# Altium footprint library POWER.PcbLib: 39 footprints (part 3 of 3)
Each footprint in its own frame and in the unit in brackets; x right, y up, seen from the top. Pads: shape width x height; smd on the part's side, far side on the other; paste and mask are expansions set on the pad; w line width, h text height; cw(c..) or ccw(c..) is an arc to the next point about the centre after c.
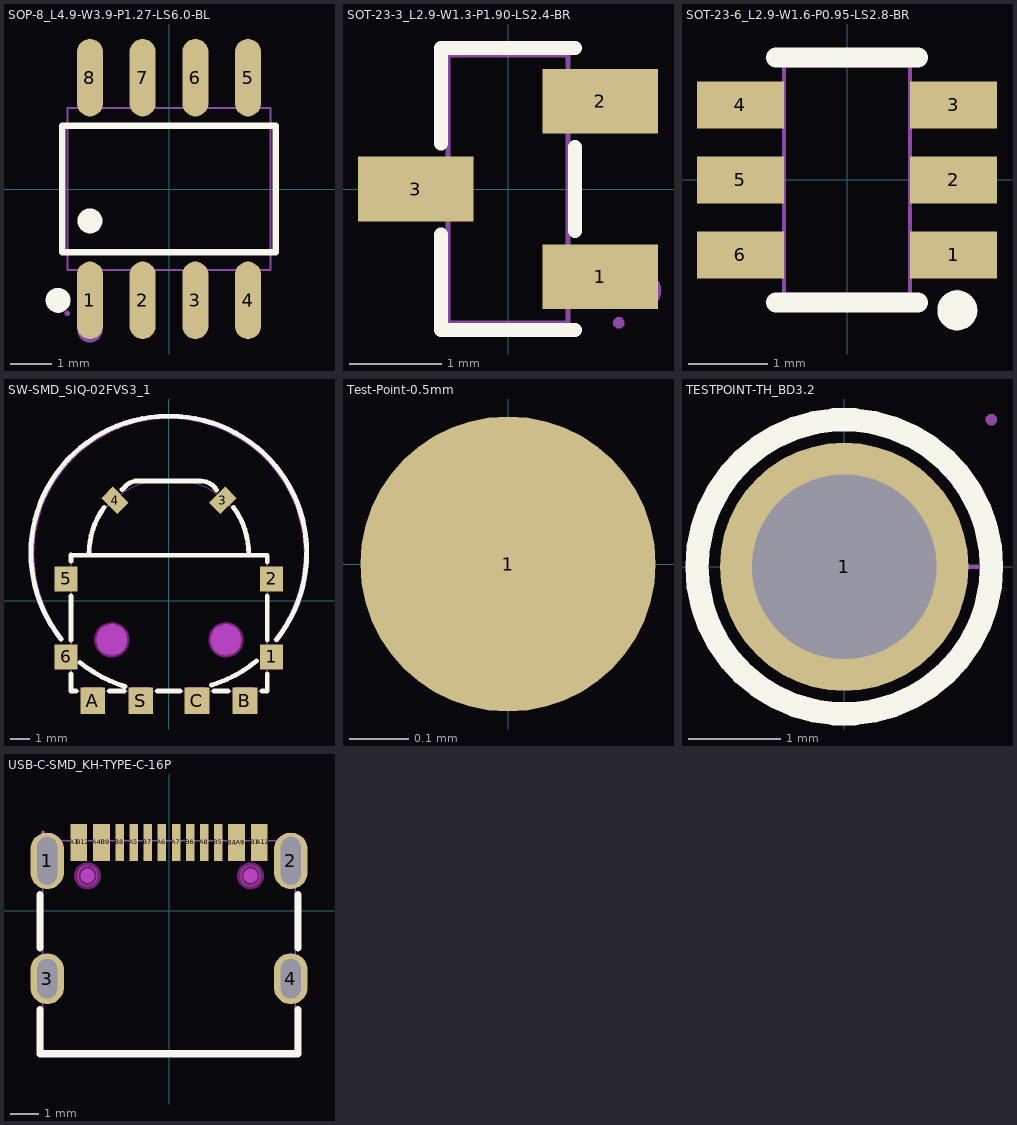
[diagram p2: the footprints below, top view; thin cyan lines are the x and y axes]

## SOP-8_L4.9-W3.9-P1.27-LS6.0-BL [mm]
pads (8):
  oval 0.63x1.865 smd: 1(-1.905,-2.682) 2(-0.635,-2.682) 3(0.635,-2.682) 4(1.905,-2.682) 5(1.905,2.682) 6(0.635,2.682) 7(-0.635,2.682) 8(-1.905,2.682)
Top Overlay:
  circle w0.3: c-2.672,-2.682 r0.15
  circle w0.3: c-1.905,-0.769 r0.15
  lines w0.152: -2.576,-1.521 2.576,-1.521 2.576,1.521 -2.576,1.521 -2.576,-1.521
Mechanical 6:
  circle w0.3: c-1.905,-3.4 r0.15
Mechanical 15:
  region: -2.115,-3 -2.115,-2.165 -1.695,-2.165 -1.695,-3
  region: -2.115,-2.175 -2.115,-1.94 -1.695,-1.94 -1.695,-2.175
  region: -0.845,-3 -0.845,-2.165 -0.425,-2.165 -0.425,-3
  region: -0.845,-2.175 -0.845,-1.94 -0.425,-1.94 -0.425,-2.175
  region: 0.425,-3 0.425,-2.165 0.845,-2.165 0.845,-3
  region: 0.425,-2.175 0.425,-1.94 0.845,-1.94 0.845,-2.175
  region: 1.695,-3 1.695,-2.165 2.115,-2.165 2.115,-3
  region: 1.695,-2.175 1.695,-1.94 2.115,-1.94 2.115,-2.175
  region: -2.115,2.165 -2.115,3 -1.695,3 -1.695,2.165
  region: -2.115,1.94 -2.115,2.175 -1.695,2.175 -1.695,1.94
  region: -0.845,2.165 -0.845,3 -0.425,3 -0.425,2.165
  region: -0.845,1.94 -0.845,2.175 -0.425,2.175 -0.425,1.94
  region: 0.425,2.165 0.425,3 0.845,3 0.845,2.165
  region: 0.425,1.94 0.425,2.175 0.845,2.175 0.845,1.94
  region: 1.695,2.165 1.695,3 2.115,3 2.115,2.165
  region: 1.695,1.94 1.695,2.175 2.115,2.175 2.115,1.94
  region: -2.51,-3 -2.51,-3.025 -2.475,-3.06 -2.425,-3.06 -2.39,-3.025 -2.39,-3 -2.39,-2.975 -2.425,-2.94 -2.475,-2.94 -2.51,-2.975 -2.51,-3
  lines w0.051: -2.45,-1.95 2.45,-1.95 2.45,1.95 -2.45,1.95 -2.45,-1.95

## SOT-23-3_L2.9-W1.3-P1.90-LS2.4-BR [mm]
pads (3):
  rect 1.25x0.7 smd paste+0 mask+0.051: 1(1,-0.95) 2(1,0.95) 3(-1,0)
Top Overlay:
  lines w0.152: -0.726,-0.495 -0.726,-1.526 0.726,-1.526 ; -0.726,0.495 -0.726,1.526 0.726,1.526 ; 0.726,-0.455 0.726,0.455
Mechanical 6:
  circle w0.2: c1.46,-1.1 r0.1
Mechanical 15:
  region: -1.2,-0.215 -1.2,0.215 -0.9,0.215 -0.9,-0.215
  region: -0.91,-0.215 -0.91,0.215 -0.64,0.215 -0.64,-0.215
  region: 0.9,-1.165 0.9,-0.735 1.2,-0.735 1.2,-1.165
  region: 0.64,-1.165 0.64,-0.735 0.91,-0.735 0.91,-1.165
  region: 0.9,0.735 0.9,1.165 1.2,1.165 1.2,0.735
  region: 0.64,0.735 0.64,1.165 0.91,1.165 0.91,0.735
  region: 1.2,-1.51 1.224,-1.509 1.259,-1.474 1.259,-1.426 1.224,-1.391 1.2,-1.39 1.175,-1.391 1.141,-1.426 1.141,-1.475 1.176,-1.509 1.2,-1.51
  lines w0.051: -0.65,-1.45 0.65,-1.45 0.65,1.45 -0.65,1.45 -0.65,-1.45

## SOT-23-6_L2.9-W1.6-P0.95-LS2.8-BR [mm]
pads (6):
  rect 1.1x0.6 smd paste+0 mask+0.051: 1(1.35,-0.95) 2(1.35,0) 3(1.35,0.95) 4(-1.35,0.95) 5(-1.35,0) 6(-1.35,-0.95)
Top Overlay:
  circle w0.254: c1.397,-1.651 r0.127
  lines w0.254: -0.9,-1.55 0.9,-1.55 ; -0.9,1.55 0.9,1.55
Mechanical 6:
  circle w0.2: c1.4,-0.95 r0.1
Mechanical 15:
  region: 0.935,1.165 0.935,0.735 0.79,0.735 0.79,1.165
  region: 0.935,0.215 0.935,-0.215 0.79,-0.215 0.79,0.215
  region: 0.935,-0.735 0.935,-1.165 0.79,-1.165 0.79,-0.735
  region: -0.935,-1.165 -0.935,-0.735 -0.79,-0.735 -0.79,-1.165
  region: -0.935,-0.215 -0.935,0.215 -0.79,0.215 -0.79,-0.215
  region: 0.925,-1.165 0.925,-0.735 1.4,-0.735 1.4,-1.165
  region: 0.925,-0.215 0.925,0.215 1.4,0.215 1.4,-0.215
  region: 0.925,0.735 0.925,1.165 1.4,1.165 1.4,0.735
  region: -0.935,0.735 -0.935,1.165 -0.79,1.165 -0.79,0.735
  region: -0.925,0.735 -0.925,1.165 -1.4,1.165 -1.4,0.735
  region: -0.925,-0.215 -0.925,0.215 -1.4,0.215 -1.4,-0.215
  region: -0.925,-1.165 -0.925,-0.735 -1.4,-0.735 -1.4,-1.165
  region: 1.34,-1.45 1.34,-1.475 1.375,-1.51 1.425,-1.51 1.46,-1.475 1.46,-1.45 1.46,-1.425 1.425,-1.39 1.375,-1.39 1.34,-1.425 1.34,-1.45
  lines w0.051: -0.8,-1.45 0.8,-1.45 0.8,1.45 -0.8,1.45 -0.8,-1.45

## SW-SMD_SIQ-02FVS3_1 [mm]
pads (10):
  rect 1.2x1.3 smd paste+0 mask+0.05: 1(5.4,-2.964) 2(5.4,1.136) 5(-5.4,1.136) 6(-5.4,-2.964)
  rect 0.85x1.2 smd rot 135 paste+0 mask+0.05: 3(2.828,5.264)
  rect 0.85x1.2 smd rot 45 paste+0 mask+0.05: 4(-2.828,5.264)
  rect 1.3x1.4 smd paste+0 mask+0.05: A(-4,-5.264) B(4,-5.264) C(1.475,-5.264) S(-1.475,-5.264)
Top Overlay:
  lines w0.254: -7.254,2.49 cw(c-0.057,2.49) -0.057,9.686 0,9.686 0.063,9.686 cw(c0.063,2.503) 7.246,2.503 7.246,2.336 ; -7.253,2.516 ccw(c0.022,2.516) -5.664,-2.023 ; -5.14,2.399 5.169,2.381 5.169,2.018 ; -5.14,-3.845 -5.14,-4.76 -5.04,-4.76 -4.881,-4.76 ; -5.14,-2.083 -5.14,0.255 ; -5.14,2.06 -5.14,2.393 ; -4.68,-3.25 ccw(c-0.216,2.266) -2.302,-4.516 ; -4.2,2.436 cw(c0,2.436) -3.399,4.903 ; -3.119,-4.76 -2.356,-4.76 ; -2.46,5.83 -2.251,6.039 cw(c-1.655,5.444) -1.655,6.286 1.655,6.286 ; -0.594,-4.76 0.594,-4.76 ; 1.655,6.286 cw(c1.655,5.275) 2.513,5.81 ; 2.237,-4.446 ccw(c0.15,2.336) 4.614,-3.18 ; 2.356,-4.76 3.119,-4.76 ; 2.37,5.99 2.42,5.94 ; 3.399,4.898 cw(c0,2.43) 4.2,2.43 ; 4.881,-4.76 5.17,-4.76 5.17,-3.845 ; 5.17,-2.083 5.17,0.255 ; 5.65,-2.059 ccw(c-0.036,2.48) 7.24,2.48
Keep-Out Layer:
  board cut-out: -3.8,-2.064 -3.799,-2.169 -3.743,-2.371 -3.638,-2.552 -3.489,-2.699 -3.307,-2.804 -3.105,-2.858 -2.895,-2.858 -2.693,-2.804 -2.511,-2.699 -2.362,-2.552 -2.257,-2.371 -2.201,-2.169 -2.2,-2.064 -2.201,-1.96 -2.257,-1.758 -2.362,-1.577 -2.511,-1.429 -2.693,-1.325 -2.895,-1.271 -3.105,-1.271 -3.307,-1.325 -3.489,-1.429 -3.638,-1.577 -3.743,-1.758 -3.799,-1.96 -3.8,-2.064
  board cut-out: 2.2,-2.064 2.201,-2.169 2.257,-2.371 2.362,-2.552 2.511,-2.699 2.693,-2.804 2.895,-2.858 3.105,-2.858 3.307,-2.804 3.489,-2.699 3.638,-2.552 3.743,-2.371 3.799,-2.169 3.8,-2.064 3.799,-1.96 3.743,-1.758 3.638,-1.577 3.489,-1.429 3.307,-1.325 3.105,-1.271 2.895,-1.271 2.693,-1.325 2.511,-1.429 2.362,-1.577 2.257,-1.758 2.201,-1.96 2.2,-2.064
Mechanical 1:
  circle w0.005: c-3,-2.064 r0.8
  circle w0.005: c3,-2.064 r0.8
Mechanical 6:
  circle w0.775: c3,-2.064 r0.388
  circle w0.775: c-3,-2.064 r0.388
  region: 5.649,-2.187 5.624,-2.187 5.577,-2.168 5.542,-2.132 5.522,-2.086 5.522,-2.06 5.522,-2.049 5.526,-2.028 5.534,-2.007 5.544,-1.988 5.551,-1.98 5.733,-1.742 6.066,-1.245 6.356,-0.722 6.6,-0.176 6.798,0.388 6.948,0.967 7.048,1.557 7.099,2.153 7.105,2.452 7.096,2.8 7.028,3.493 6.892,4.176 6.69,4.843 6.424,5.486 6.095,6.101 5.708,6.68 5.266,7.218 4.774,7.711 4.236,8.153 3.656,8.54 3.042,8.868 2.399,9.134 1.732,9.337 1.049,9.472 0.356,9.541 0.008,9.549 -0.341,9.541 -1.034,9.472 -1.717,9.337 -2.383,9.134 -3.027,8.868 -3.641,8.54 -4.22,8.153 -4.759,7.711 -5.251,7.218 -5.693,6.68 -6.08,6.101 -6.408,5.486 -6.675,4.843 -6.877,4.176 -7.013,3.493 -7.081,2.8 -7.09,2.452 -7.083,2.156 -7.034,1.565 -6.936,0.981 -6.789,0.407 -6.594,-0.153 -6.354,-0.694 -6.07,-1.214 -5.743,-1.708 -5.564,-1.944 -5.557,-1.953 -5.547,-1.972 -5.539,-1.992 -5.536,-2.013 -5.536,-2.024 -5.536,-2.049 -5.555,-2.096 -5.591,-2.132 -5.638,-2.151 -5.663,-2.151 -5.677,-2.151 -5.706,-2.145 -5.732,-2.132 -5.754,-2.113 -5.763,-2.102 -5.954,-1.861 -6.293,-1.348 -6.588,-0.81 -6.837,-0.248 -7.038,0.332 -7.19,0.927 -7.292,1.533 -7.344,2.145 -7.344,2.452 -7.344,2.813 -7.273,3.532 -7.132,4.24 -6.922,4.932 -6.646,5.599 -6.305,6.236 -5.904,6.836 -5.446,7.395 -4.935,7.906 -4.377,8.364 -3.776,8.765 -3.139,9.106 -2.472,9.382 -1.781,9.592 -1.072,9.732 -0.353,9.803 0.008,9.803 0.369,9.803 1.088,9.732 1.796,9.592 2.487,9.382 3.155,9.106 3.792,8.765 4.392,8.364 4.95,7.906 5.461,7.395 5.919,6.836 6.321,6.236 6.661,5.599 6.938,4.932 7.147,4.24 7.288,3.532 7.359,2.813 7.359,2.452 7.359,2.142 7.307,1.524 7.203,0.913 7.048,0.312 6.842,-0.273 6.589,-0.839 6.288,-1.381 5.943,-1.896 5.75,-2.138 5.741,-2.15 5.718,-2.168 5.692,-2.181 5.664,-2.187 5.649,-2.187
Mechanical 15:
  region: -5.23,-4.76 -5.23,-4.785 -5.195,-4.82 -5.145,-4.82 -5.11,-4.785 -5.11,-4.76 -5.11,-4.735 -5.145,-4.7 -5.195,-4.7 -5.23,-4.735 -5.23,-4.76
  region: 3.111,5.123 2.97,4.981 2.545,5.406 2.687,5.547
  region: -2.687,5.547 -2.545,5.406 -2.97,4.981 -3.111,5.123
  region: 4.97,1.636 5.17,1.636 5.17,0.636 4.97,0.636
  region: 4.97,-2.464 5.17,-2.464 5.17,-3.464 4.97,-3.464
  region: -5.14,-2.464 -4.94,-2.464 -4.94,-3.464 -5.14,-3.464
  region: -5.14,1.636 -4.94,1.636 -4.94,0.636 -5.14,0.636
  region: -4.5,-4.76 -4.5,-4.56 -3.5,-4.56 -3.5,-4.76
  region: -1.975,-4.76 -1.975,-4.56 -0.975,-4.56 -0.975,-4.76
  region: 0.975,-4.76 0.975,-4.56 1.975,-4.56 1.975,-4.76
  region: 3.5,-4.76 3.5,-4.56 4.5,-4.56 4.5,-4.76
  lines w0.051: -5.14,-4.76 5.17,-4.76 5.17,2.381 ccw(c5.169,2.381) 5.169,2.381 4.212,2.381 cw(c4.212,2.383) 4.21,2.383 ccw(c0.307,2.383) 0.307,6.286 0.01,6.286 -0.302,6.286 ccw(c-0.302,2.397) -4.19,2.397 -5.136,2.397 ccw(c-5.136,2.393) -5.14,2.393 -5.14,-4.76 ; -5.14,-4.76 -5.14,-4.76
Multi-Layer keep-out:
  circle w0.254: c-3,-2.064 r0.8
  circle w0.254: c3,-2.064 r0.8

## Test-Point-0.5mm [mm]
pads (1):
  round 0.5 smd: 1(0,0)

## TESTPOINT-TH_BD3.2 [mm]
pads (1):
  round 2.7 hole 2 paste+0 mask+0.05: 1(0,0)
Top Overlay:
  circle w0.254: c0,0 r1.6
Mechanical 15:
  region: -0.875,0.375 0.875,0.375 0.875,-0.375 -0.875,-0.375
  region: 1.66,1.6 1.66,1.625 1.625,1.66 1.575,1.66 1.54,1.625 1.54,1.6 1.54,1.575 1.575,1.54 1.625,1.54 1.66,1.575 1.66,1.6
  lines w0.051: 1.6,0 ccw(c0,0) 0,1.6 ccw(c0,0) -1.6,0 ccw(c0,0) 0,-1.6 ccw(c0,0) 1.6,0 ; 1.6,0 0,0 1.6,0

## USB-C-SMD_KH-TYPE-C-16P [mm]
pads (20):
  oval 1.2x2 hole 0.7 slot 1.7 at 90 deg paste+0 mask+0.051: 1(-4.32,1.765) 2(4.32,1.765)
  oval 1.2x1.8 hole 0.7 slot 1.4 at 90 deg paste+0 mask+0.051: 3(-4.32,-2.415) 4(4.32,-2.415)
  rect 0.3x1.3 smd paste-100 mask+0.05: A1(-3.35,2.415) A4(-2.55,2.415) A5(-1.25,2.415) A6(-0.25,2.415) A7(0.25,2.415) A8(1.25,2.415) A9(2.55,2.415) A12(3.35,2.415) B1(3.05,2.415) B4(2.25,2.415) B5(1.75,2.415) B6(0.75,2.415) B7(-0.75,2.415) B8(-1.75,2.415) B9(-2.25,2.415) B12(-3.05,2.415)
Top Overlay:
  lines w0.254: -4.572,-3.507 -4.572,-5.08 4.572,-5.08 4.572,-3.507 ; -4.572,-1.323 -4.572,0.573 ; 4.572,-1.323 4.572,0.573
Top Paste:
  drawing of 16 lines, arcs and shapes, not listed
Keep-Out Layer:
  board cut-out: 2.89,1.585 2.82,1.585 2.692,1.532 2.593,1.433 2.54,1.305 2.54,1.165 2.593,1.037 2.692,0.938 2.82,0.885 2.89,0.885 2.96,0.885 3.088,0.938 3.187,1.037 3.24,1.165 3.24,1.305 3.187,1.433 3.088,1.532 2.96,1.585 2.89,1.585
  board cut-out: -2.89,1.585 -2.96,1.585 -3.088,1.532 -3.187,1.433 -3.24,1.305 -3.24,1.165 -3.187,1.037 -3.088,0.938 -2.96,0.885 -2.89,0.885 -2.82,0.885 -2.692,0.938 -2.593,1.037 -2.54,1.165 -2.54,1.305 -2.593,1.433 -2.692,1.532 -2.82,1.585 -2.89,1.585
Mechanical 1:
  circle w0.005: c2.89,1.235 r0.35
  circle w0.005: c-2.89,1.235 r0.35
Mechanical 6:
  circle w0.25: c2.89,1.235 r0.125
  circle w0.25: c-2.89,1.235 r0.125
Mechanical 15:
  region: 3.199,2.77 3.399,2.77 3.399,1.77 3.199,1.77
  region: 3.001,2.77 3.201,2.77 3.201,1.77 3.001,1.77
  region: 2.397,2.77 2.597,2.77 2.597,1.77 2.397,1.77
  region: 2.198,2.77 2.398,2.77 2.398,1.77 2.198,1.77
  region: -3.402,2.77 -3.202,2.77 -3.202,1.77 -3.402,1.77
  region: -3.203,2.77 -3.003,2.77 -3.003,1.77 -3.203,1.77
  region: -2.602,2.77 -2.402,2.77 -2.402,1.77 -2.602,1.77
  region: -2.403,2.77 -2.203,2.77 -2.203,1.77 -2.403,1.77
  region: -1.85,2.77 -1.65,2.77 -1.65,1.77 -1.85,1.77
  region: -1.35,2.77 -1.15,2.77 -1.15,1.77 -1.35,1.77
  region: -0.85,2.77 -0.65,2.77 -0.65,1.77 -0.85,1.77
  region: -0.35,2.77 -0.15,2.77 -0.15,1.77 -0.35,1.77
  region: 0.15,2.77 0.35,2.77 0.35,1.77 0.15,1.77
  region: 0.65,2.77 0.85,2.77 0.85,1.77 0.65,1.77
  region: 1.65,2.77 1.85,2.77 1.85,1.77 1.65,1.77
  region: 1.15,2.77 1.35,2.77 1.35,1.77 1.15,1.77
  region: 4.17,-2.015 4.47,-2.015 4.47,-2.815 4.17,-2.815
  region: -4.47,-2.015 -4.17,-2.015 -4.17,-2.815 -4.47,-2.815
  region: 4.17,2.315 4.47,2.315 4.47,1.215 4.17,1.215
  region: -4.47,2.315 -4.17,2.315 -4.17,1.215 -4.47,1.215
  region: -4.47,2.83 -4.495,2.83 -4.53,2.795 -4.53,2.745 -4.495,2.71 -4.47,2.71 -4.445,2.71 -4.41,2.745 -4.41,2.795 -4.445,2.83 -4.47,2.83
  lines w0.051: -4.47,-5.08 4.47,-5.08 4.47,2.47 -4.47,2.47 -4.47,-5.08
Multi-Layer keep-out:
  circle w0.254: c2.89,1.235 r0.35
  circle w0.254: c-2.89,1.235 r0.35